# Altium schematic symbol library UC3854.SchLib: 6 symbols
Pins are listed as number, name and electrical type; pins without a type are passive.

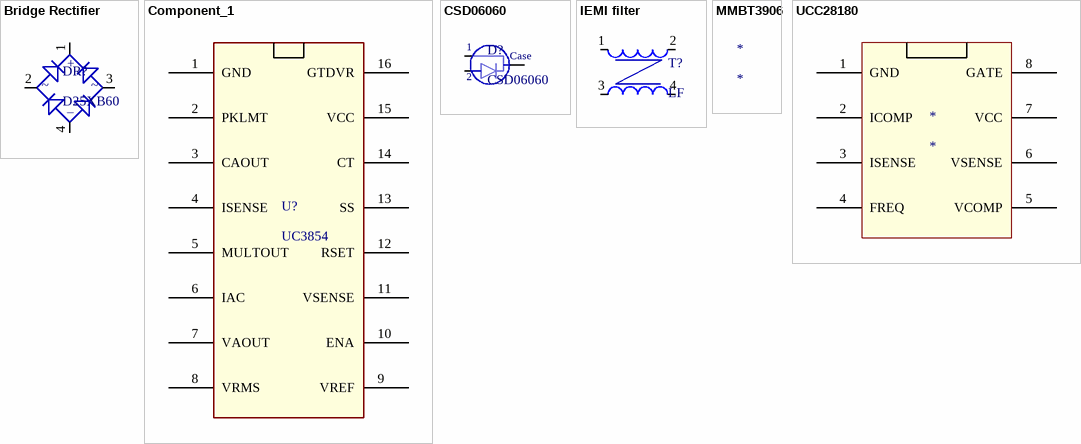
[diagram p0: symbols Bridge Rectifier to UCC28180]

## Bridge Rectifier
designator DR?, comment D25XB60
pins: 1 21, 2 21, 3 21, 4 0
text: +; ~; _

## Component_1
designator U?, comment UC3854
pins: 1 GND, 2 PKLMT, 3 CAOUT, 4 ISENSE, 5 MULTOUT, 6 IAC, 7 VAOUT, 8 VRMS, 9 VREF, 10 ENA, 11 VSENSE, 12 RSET, 13 SS, 14 CT, 15 VCC, 16 GTDVR

## CSD06060
designator D?
pins: 1 Kathod, 1 Case, 2 Anode

## IEMI filter
designator T?, comment LF
pins: 1 2, 2, 3 2, 4 2

## MMBT3906
designator *

## UCC28180
designator *
pins: 1 GND, 2 ICOMP, 3 ISENSE, 4 FREQ, 5 VCOMP, 6 VSENSE, 7 VCC, 8 GATE